# Altium footprint library IC_STMicroelectronics_STC3105IQT.PcbLib: 1 footprints
Each footprint in its own frame and in the unit in brackets; x right, y up, seen from the top. Pads: shape width x height; smd on the part's side, far side on the other; paste and mask are expansions set on the pad; w line width, h text height; cw(c..) or ccw(c..) is an arc to the next point about the centre after c.
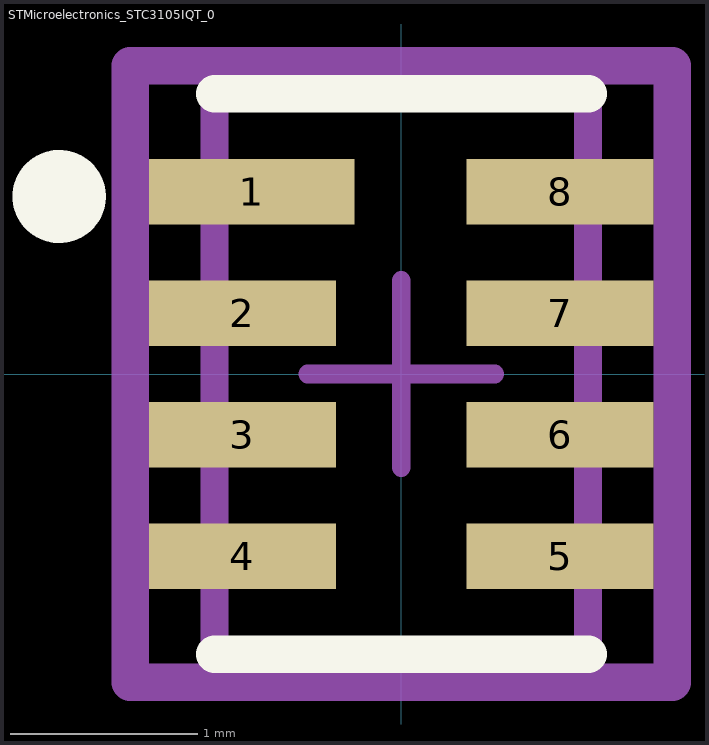
[diagram p0: the footprint, top view; thin cyan lines are the x and y axes]

## STMicroelectronics_STC3105IQT_0 [mm]
pads (8):
  rect 1.1x0.35 smd: 1(-0.8,0.975)
  rect 1x0.35 smd: 2(-0.85,0.325) 3(-0.85,-0.325) 4(-0.85,-0.975) 5(0.85,-0.975) 6(0.85,-0.325) 7(0.85,0.325) 8(0.85,0.975)
Top Overlay:
  circle w0.25: c-1.831,0.95 r0.125
  lines w0.2: -1,-1.5 1,-1.5 ; -1,1.5 1,1.5
Mechanical 10:
  lines w0.2: -1.45,-1.65 -1.45,1.65 1.45,1.65 1.45,-1.65 -1.45,-1.65
  text ".Designator" at 0,0 h1
Mechanical 12:
  lines w0.15: -1,-1.5 -1,1.5 1,1.5 1,-1.5 -1,-1.5
Mechanical 15:
  lines w0.1: -0.5,0 0.5,0 ; 0,-0.5 0,0.5
  lines w0.2: -1.45,-1.65 -1.45,1.65 1.45,1.65 1.45,-1.65 -1.45,-1.65
3D body "IC_STMicroelectronics_STC3105IQT.STEP": height 1.02, standoff 0, extent -1.02,-1.476 1.02,1.524